# Altium schematic symbol library LM27222.Schlib: 1 symbol
Pins are listed as number, name and electrical type; pins without a type are passive.

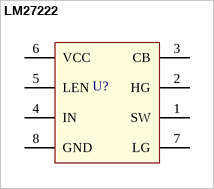
[diagram p0: symbol LM27222]

## LM27222
designator U?  (value not drawn)
Gate Driver, 5A, Half-Bridge, 406.85V, LM27222
pins: 1 SW, 2 HG, 3 CB, 4 IN, 5 LEN, 6 VCC, 7 LG, 8 GND